# EAGLE library part MCP16322 (library MCP1632x)
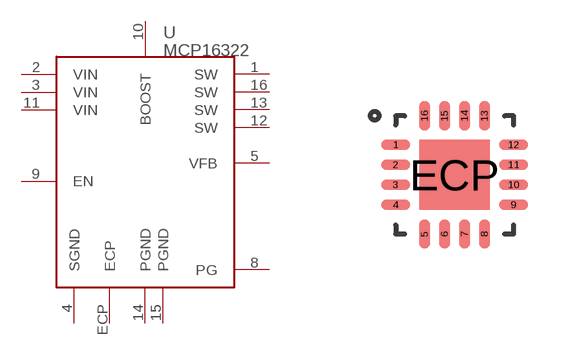
[diagram p0: symbol with the pads of NG; footprint NG]

Designator prefix U

## MCP16322-NG  [NG]
1  SW  pwr
2  VIN  pwr
3  VIN  pwr
4  SGND  pwr
5  VFB  pwr
8  PG  oc
9  EN  in
10  BOOST  pwr
11  VIN  pwr
12  SW  pwr
13  SW  pwr
14  PGND  pwr
15  PGND  pwr
16  SW  pwr
ECP  ECP  pwr

## Footprint NG (pad centres in mm)
smd 0.737 x 0.267: 1 -1.475,0.75; 2 -1.475,0.25; 3 -1.475,-0.25; 4 -1.475,-0.75; 9 1.475,-0.75; 10 1.475,-0.25; 11 1.475,0.25; 12 1.475,0.75
smd 0.267 x 0.737: 5 -0.75,-1.475; 6 -0.25,-1.475; 7 0.25,-1.475; 8 0.75,-1.475; 13 0.75,1.475; 14 0.25,1.475; 15 -0.25,1.475; 16 -0.75,1.475
smd 1.753 x 1.753: ECP 0,0